# Altium integrated library GRM033R61E103KA12D.IntLib: 1 symbol
Pins are listed as number, name and electrical type; pins without a type are passive.

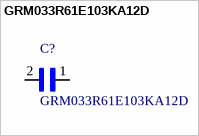
[diagram p0: symbol GRM033R61E103KA12D]

## GRM033R61E103KA12D
designator C?
/ 0201 10 nF 25 V Â±10% Tolerance X5R SMT Multilayer Ceramic Capacitor /; MF: Murata Electronics; SnapEDA_Link: https://www.snapeda.com/parts/GRM033R61E103KA12D/Murata%20Electronics%20North%20America/view-part/?ref=snap; MP: GRM033R61E103KA12D; Availability: Unavailable; Package: 0201 Murata; Price: None; Value: *
footprint *CAPC0603X33N
pins: 1, 2